# Altium integrated library TI Amplifiers and Linear Special Function Amplifier.IntLib: 708 symbols (part 19 of 47)
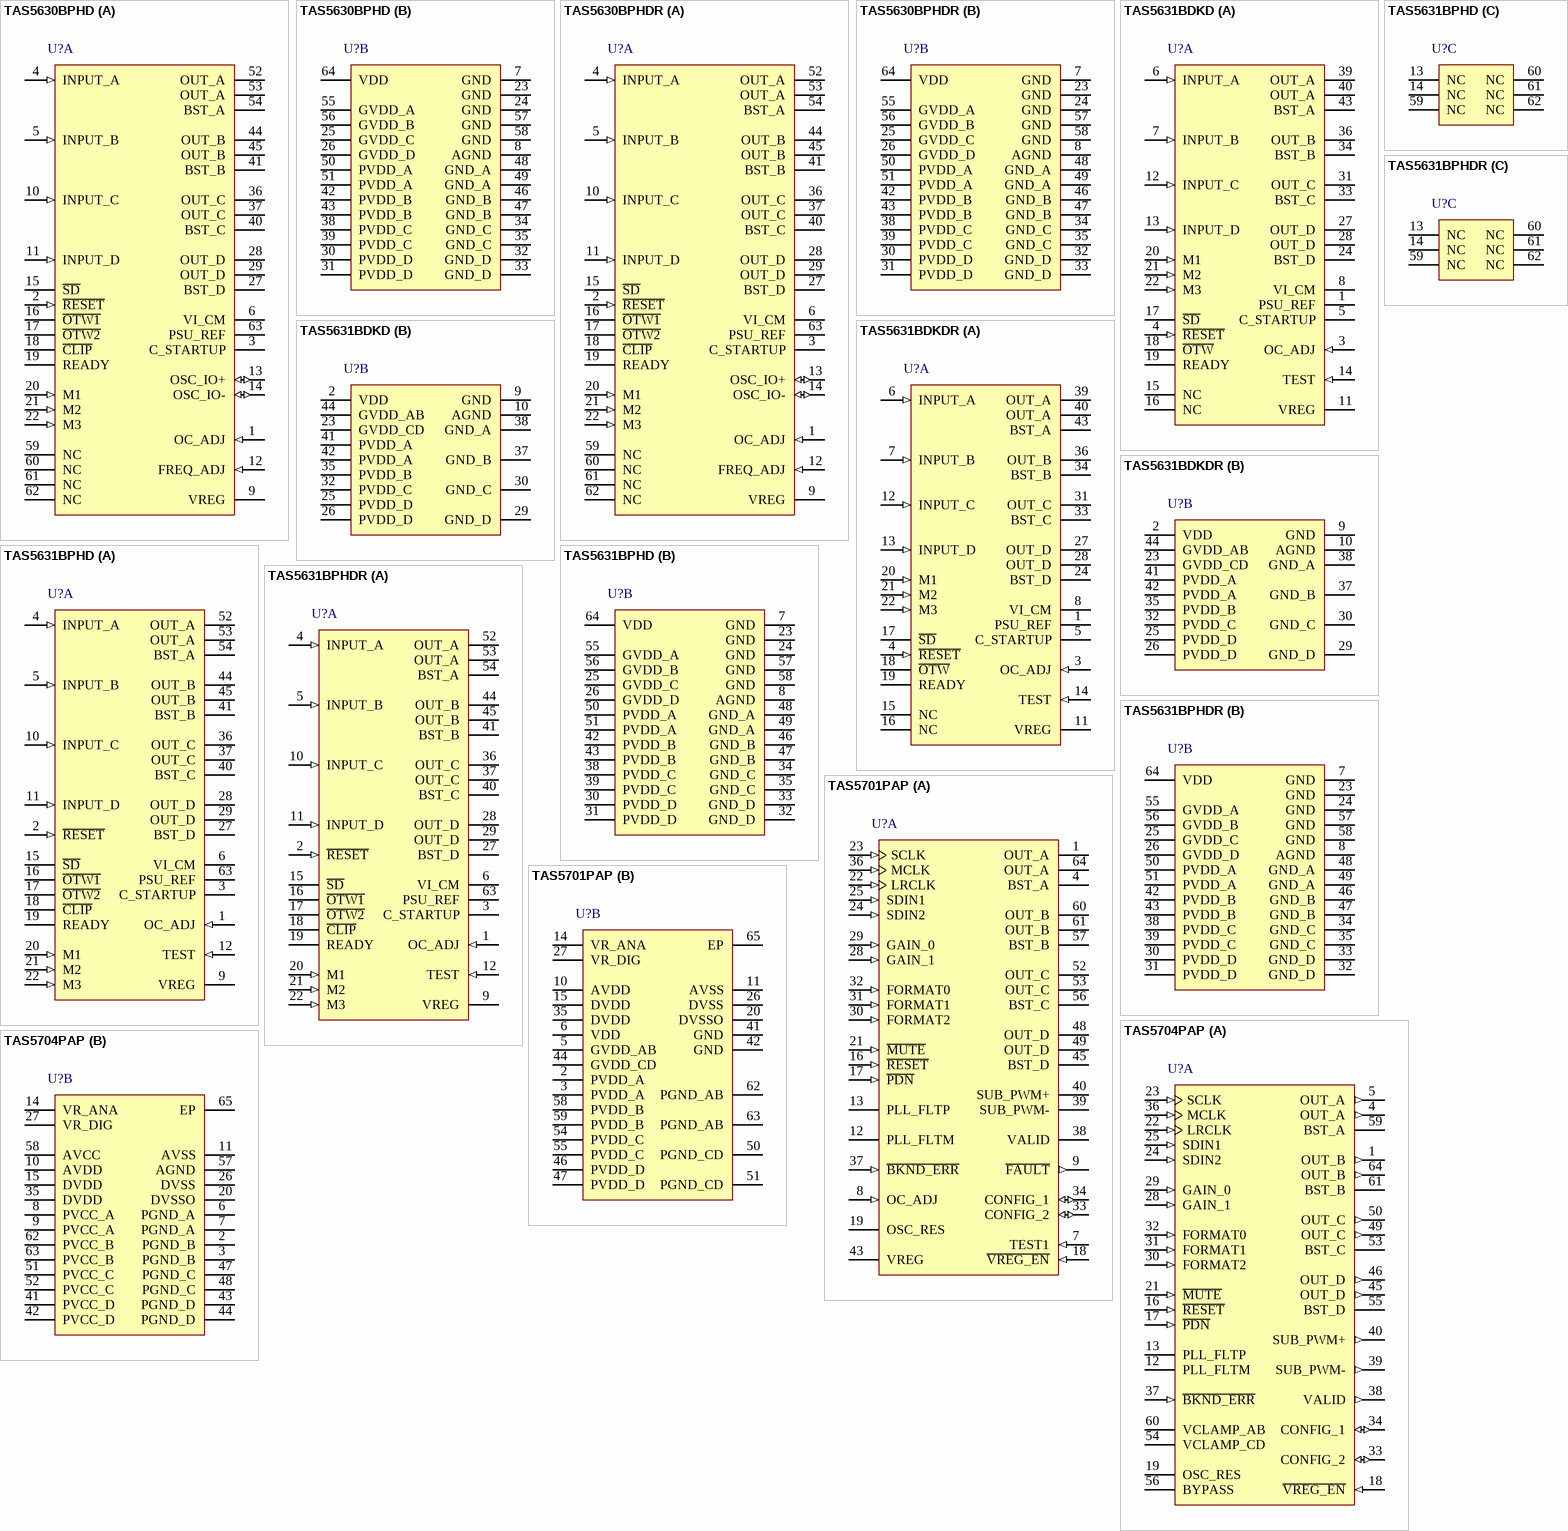
[diagram p57: symbols TAS5630BPHD to TAS5704PAP]

## TAS5630BPHD
designator U?
Analog Input 300 W Stereo Class D Amplifier with Integrated Feedback, 0 to 70 degC, 64-pin QFP (PHD64), Green (RoHS & no Sb/Br); Manufacturer: Texas Instruments; PartNumber: TAS5630BPHD; Analog Supply Max [V]: 13.2; Analog Supply Min [V]: 10.8; Max. Number of Speaker Outputs: 4; Power Stage Supply Min(V): 25; SubFamily: Mid/High-Power Amplifier; DatasheetVersion: SLES217C; PackageVersion: 4087742/E, 10/2008; PackageReference: PHD64; PackageDescription: 64-Pin Plastic Flat Pack, Body 14 x 14 mm, Pitch 0.8 mm; Supplier 1: Digi-Key; Supplier Part Number 1: 296-34190-5-ND; Supplier 2: Farnell; Supplier Part Number 2: 2095822; Supplier 3: Newark; Supplier Part Number 3: 91T5091; Supplier 4: Mouser; Supplier Part Number 4: 595-TAS5630BPHD; Eco-Plan: Green (RoHS & no Sb/Br); Input Type: Analog; Mounting Technology: Surface Mount; Code_JEDEC: MS-026; ComponentLink1Description: Manufacturer URL; ComponentLink1URL: http://www.ti.com/; ComponentLink2Description: Datasheet; ComponentLink2URL: http://www.ti.com/general/docs/lit/getliterature.tsp?genericPartNumber=TAS5630B&fileType=pdf; ComponentLink3Description: Package Specification; ComponentLink3URL: http://www.ti.com/lit/ml/mpqf047d/mpqf047d.pdf
footprint TI-PHD64_N (QFP, 64-Leads, Body 14x14mm, Pitch 0.8mm, IPC Medium Density)
footprint TI-PHD64_L (QFP, 64-Leads, Body 14x14mm, Pitch 0.8mm, IPC High Density)
footprint TI-PHD64_M (QFP, 64-Leads, Body 14x14mm, Pitch 0.8mm, IPC Low Density)
part A pins: 1 OC_ADJ (in) "Analog overcurrent-programming pin requires resistor to AGND. 64-pin package (PHD) = 22 kohm. 44-pin PSOP3 (DKD) = 24 kohm", 2 ~{RESET} (in) "Device reset input; active-low", 3 C_STARTUP "Start-up ramp requires a charging capacitor of 4.7 nF to AGND in BTL mode", 4 INPUT_A (in) "Input signal for half-bridge A", 5 INPUT_B (in) "Input signal for half-bridge B", 6 VI_CM "Analog comparator reference node requires close decoupling of 1 nF to AGND.", 9 VREG "Digital regulator supply filter pin requires 0.1-uF capacitor to AGND.", 10 INPUT_C (in) "Input signal for half-bridge C", 11 INPUT_D (in) "Input signal for half-bridge D", 12 FREQ_ADJ (in) "PWM frame-rate-programming pin requires resistor to AGND", 13 OSC_IO+ (io) "Oscillator master/slave output/input", 14 OSC_IO- (io) "Oscillator master/slave output/input", 15 ~{SD} (oc) "Shutdown signal, open-drain, active-low", 16 ~{OTW1} (oc) "Overtemperature warning signal, open-drain, active-low", 17 ~{OTW2} (oc) "Overtemperature warning signal, open-drain, active-low", 18 ~{CLIP} (oc) "Clipping warning; open drain; active-low", 19 READY (oc) "Normal operation; open-drain; active-high", 20 M1 (in) "Mode selection", 21 M2 (in) "Mode selection", 22 M3 (in) "Mode selection", 27 BST_D "HS bootstrap supply (BST), external 0.033-uF capacitor to OUT_D required.", 28 OUT_D (hiz) "Output, half-bridge D", 29 OUT_D (hiz) "Output, half-bridge D", 36 OUT_C (hiz) "Output, half-bridge C", 37 OUT_C (hiz) "Output, half-bridge C", 40 BST_C "HS bootstrap supply (BST), external 0.033-uF capacitor to OUT_C required.", 41 BST_B "HS bootstrap supply (BST), external 0.033-uF capacitor to OUT_B required.", 44 OUT_B (hiz) "Output, half-bridge B", 45 OUT_B (hiz) "Output, half-bridge B", 52 OUT_A (hiz) "Output, half-bridge A", 53 OUT_A (hiz) "Output, half-bridge A", 54 BST_A "HS bootstrap supply (BST), external 0.033-uF capacitor to OUT_A required.", 59 NC "No connect; pins may be grounded.", 60 NC "No connect; pins may be grounded.", 61 NC "No connect; pins may be grounded.", 62 NC "No connect; pins may be grounded.", 63 PSU_REF "PSU reference requires close decoupling of 330 pF to AGND."
part B pins: 7 GND (power) "Ground", 8 AGND (power) "Analog ground", 23 GND (power) "Ground", 24 GND (power) "Ground", 25 GVDD_C (power) "Gate drive voltage supply requires 0.1-uF capacitor to GND_C", 26 GVDD_D (power) "Gate drive voltage supply requires 0.1-uF capacitor to GND_D", 30 PVDD_D (power) "Power-supply input for half-bridge D requires close decoupling of 0.01-uF capacitor in parallel with 2.2-uF capacitor to GND_D.", 31 PVDD_D (power) "Power-supply input for half-bridge D requires close decoupling of 0.01-uF capacitor in parallel with 2.2-uF capacitor to GND_D.", 32 GND_D (power) "Power ground for half-bridge D", 33 GND_D (power) "Power ground for half-bridge D", 34 GND_C (power) "Power ground for half-bridge C", 35 GND_C (power) "Power ground for half-bridge C", 38 PVDD_C (power) "Power-supply input for half-bridge C requires close decoupling of 0.0- uF capacitor in parallel with 2.2-uF capacitor to GND_C.", 39 PVDD_C (power) "Power-supply input for half-bridge C requires close decoupling of 0.0- uF capacitor in parallel with 2.2-uF capacitor to GND_C.", 42 PVDD_B (power) "Power-supply input for half-bridge B requires close decoupling of 0.01-uF capacitor in parallel with 2.2-uF capacitor to GND_B.", 43 PVDD_B (power) "Power-supply input for half-bridge B requires close decoupling of 0.01-uF capacitor in parallel with 2.2-uF capacitor to GND_B.", 46 GND_B (power) "Power ground for half-bridge B", 47 GND_B (power) "Power ground for half-bridge B", 48 GND_A (power) "Power ground for half-bridge A", 49 GND_A (power) "Power ground for half-bridge A", 50 PVDD_A (power) "Power-supply input for half-bridge A requires close decoupling of 0.01-uF capacitor in parallel with 2.2-uF capacitor to GND_A.", 51 PVDD_A (power) "Power-supply input for half-bridge A requires close decoupling of 0.01-uF capacitor in parallel with 2.2-uF capacitor to GND_A.", 55 GVDD_A (power) "Gate-drive voltage supply requires 0.1-uF capacitor to GND_A", 56 GVDD_B (power) "Gate drive voltage supply requires 0.1-uF capacitor to GND_B", 57 GND (power) "Ground", 58 GND (power) "Ground", 64 VDD (power) "Power supply for digital voltage regulator requires a 10-uF capacitor in parallel with a 0.1-uF capacitor to GND for decoupling."

## TAS5630BPHDR
designator U?
Analog Input 300 W Stereo Class D Amplifier with Integrated Feedback, 0 to 70 degC, 64-pin QFP (PHD64), Green (RoHS & no Sb/Br); Manufacturer: Texas Instruments; PartNumber: TAS5630BPHDR; Analog Supply Max [V]: 13.2; Analog Supply Min [V]: 10.8; Max. Number of Speaker Outputs: 4; Power Stage Supply Min(V): 25; SubFamily: Mid/High-Power Amplifier; DatasheetVersion: SLES217C; PackageVersion: 4087742/E, 10/2008; PackageReference: PHD64; PackageDescription: 64-Pin Plastic Flat Pack, Body 14 x 14 mm, Pitch 0.8 mm; Supplier 1: Digi-Key; Supplier Part Number 1: 296-30006-2-ND; Supplier 2: Digi-Key; Supplier Part Number 2: 296-30006-1-ND; Supplier 3: Digi-Key; Supplier Part Number 3: 296-30006-6-ND; Supplier 4: Newark; Supplier Part Number 4: 82T4186; Supplier 5: Mouser; Supplier Part Number 5: 595-TAS5630BPHDR; Eco-Plan: Green (RoHS & no Sb/Br); Input Type: Analog; Mounting Technology: Surface Mount; Code_JEDEC: MS-026; ComponentLink1Description: Manufacturer URL; ComponentLink1URL: http://www.ti.com/; ComponentLink2Description: Datasheet; ComponentLink2URL: http://www.ti.com/general/docs/lit/getliterature.tsp?genericPartNumber=TAS5630B&fileType=pdf; ComponentLink3Description: Package Specification; ComponentLink3URL: http://www.ti.com/lit/ml/mpqf047d/mpqf047d.pdf
footprint TI-PHD64_N (QFP, 64-Leads, Body 14x14mm, Pitch 0.8mm, IPC Medium Density)
footprint TI-PHD64_L (QFP, 64-Leads, Body 14x14mm, Pitch 0.8mm, IPC High Density)
footprint TI-PHD64_M (QFP, 64-Leads, Body 14x14mm, Pitch 0.8mm, IPC Low Density)
part A pins: 1 OC_ADJ (in) "Analog overcurrent-programming pin requires resistor to AGND. 64-pin package (PHD) = 22 kohm. 44-pin PSOP3 (DKD) = 24 kohm", 2 ~{RESET} (in) "Device reset input; active-low", 3 C_STARTUP "Start-up ramp requires a charging capacitor of 4.7 nF to AGND in BTL mode", 4 INPUT_A (in) "Input signal for half-bridge A", 5 INPUT_B (in) "Input signal for half-bridge B", 6 VI_CM "Analog comparator reference node requires close decoupling of 1 nF to AGND.", 9 VREG "Digital regulator supply filter pin requires 0.1-uF capacitor to AGND.", 10 INPUT_C (in) "Input signal for half-bridge C", 11 INPUT_D (in) "Input signal for half-bridge D", 12 FREQ_ADJ (in) "PWM frame-rate-programming pin requires resistor to AGND", 13 OSC_IO+ (io) "Oscillator master/slave output/input", 14 OSC_IO- (io) "Oscillator master/slave output/input", 15 ~{SD} (oc) "Shutdown signal, open-drain, active-low", 16 ~{OTW1} (oc) "Overtemperature warning signal, open-drain, active-low", 17 ~{OTW2} (oc) "Overtemperature warning signal, open-drain, active-low", 18 ~{CLIP} (oc) "Clipping warning; open drain; active-low", 19 READY (oc) "Normal operation; open-drain; active-high", 20 M1 (in) "Mode selection", 21 M2 (in) "Mode selection", 22 M3 (in) "Mode selection", 27 BST_D "HS bootstrap supply (BST), external 0.033-uF capacitor to OUT_D required.", 28 OUT_D (hiz) "Output, half-bridge D", 29 OUT_D (hiz) "Output, half-bridge D", 36 OUT_C (hiz) "Output, half-bridge C", 37 OUT_C (hiz) "Output, half-bridge C", 40 BST_C "HS bootstrap supply (BST), external 0.033-uF capacitor to OUT_C required.", 41 BST_B "HS bootstrap supply (BST), external 0.033-uF capacitor to OUT_B required.", 44 OUT_B (hiz) "Output, half-bridge B", 45 OUT_B (hiz) "Output, half-bridge B", 52 OUT_A (hiz) "Output, half-bridge A", 53 OUT_A (hiz) "Output, half-bridge A", 54 BST_A "HS bootstrap supply (BST), external 0.033-uF capacitor to OUT_A required.", 59 NC "No connect; pins may be grounded.", 60 NC "No connect; pins may be grounded.", 61 NC "No connect; pins may be grounded.", 62 NC "No connect; pins may be grounded.", 63 PSU_REF "PSU reference requires close decoupling of 330 pF to AGND."
part B pins: 7 GND (power) "Ground", 8 AGND (power) "Analog ground", 23 GND (power) "Ground", 24 GND (power) "Ground", 25 GVDD_C (power) "Gate drive voltage supply requires 0.1-uF capacitor to GND_C", 26 GVDD_D (power) "Gate drive voltage supply requires 0.1-uF capacitor to GND_D", 30 PVDD_D (power) "Power-supply input for half-bridge D requires close decoupling of 0.01-uF capacitor in parallel with 2.2-uF capacitor to GND_D.", 31 PVDD_D (power) "Power-supply input for half-bridge D requires close decoupling of 0.01-uF capacitor in parallel with 2.2-uF capacitor to GND_D.", 32 GND_D (power) "Power ground for half-bridge D", 33 GND_D (power) "Power ground for half-bridge D", 34 GND_C (power) "Power ground for half-bridge C", 35 GND_C (power) "Power ground for half-bridge C", 38 PVDD_C (power) "Power-supply input for half-bridge C requires close decoupling of 0.0- uF capacitor in parallel with 2.2-uF capacitor to GND_C.", 39 PVDD_C (power) "Power-supply input for half-bridge C requires close decoupling of 0.0- uF capacitor in parallel with 2.2-uF capacitor to GND_C.", 42 PVDD_B (power) "Power-supply input for half-bridge B requires close decoupling of 0.01-uF capacitor in parallel with 2.2-uF capacitor to GND_B.", 43 PVDD_B (power) "Power-supply input for half-bridge B requires close decoupling of 0.01-uF capacitor in parallel with 2.2-uF capacitor to GND_B.", 46 GND_B (power) "Power ground for half-bridge B", 47 GND_B (power) "Power ground for half-bridge B", 48 GND_A (power) "Power ground for half-bridge A", 49 GND_A (power) "Power ground for half-bridge A", 50 PVDD_A (power) "Power-supply input for half-bridge A requires close decoupling of 0.01-uF capacitor in parallel with 2.2-uF capacitor to GND_A.", 51 PVDD_A (power) "Power-supply input for half-bridge A requires close decoupling of 0.01-uF capacitor in parallel with 2.2-uF capacitor to GND_A.", 55 GVDD_A (power) "Gate-drive voltage supply requires 0.1-uF capacitor to GND_A", 56 GVDD_B (power) "Gate drive voltage supply requires 0.1-uF capacitor to GND_B", 57 GND (power) "Ground", 58 GND (power) "Ground", 64 VDD (power) "Power supply for digital voltage regulator requires a 10-uF capacitor in parallel with a 0.1-uF capacitor to GND for decoupling."

## TAS5631BDKD
designator U?
PWM Input 300 W Stereo Class D Amplifier with Integrated Feedback, 0 to 70 degC, 44-pin SOP (DKD44), Green (RoHS & no Sb/Br); Manufacturer: Texas Instruments; PartNumber: TAS5631BDKD; Analog Supply Max [V]: 13.2; Analog Supply Min [V]: 10.8; Max. Number of Speaker Outputs: 4; Power Stage Supply Min(V): 25; SubFamily: Mid/High-Power Amplifier; DatasheetVersion: SLES263C; PackageVersion: 4204421-3/K, 06/2012; PackageReference: DKD44; PackageDescription: 44-Pin Plastic Small Outline, Body 11 x 15.9 mm, Pitch 0.65 mm; Supplier 1: Digi-Key; Supplier Part Number 1: TAS5631BDKD-ND; Supplier 2: Mouser; Supplier Part Number 2: 595-TAS5631BDKD; Eco-Plan: Green (RoHS & no Sb/Br); Input Type: PWM; Mounting Technology: Surface Mount; ComponentLink1Description: Manufacturer URL; ComponentLink1URL: http://www.ti.com/; ComponentLink2Description: Datasheet; ComponentLink2URL: http://www.ti.com/general/docs/lit/getliterature.tsp?genericPartNumber=TAS5631B&fileType=pdf; ComponentLink3Description: Package Specification; ComponentLink3URL: http://www.ti.com/litv/pdf/mpdi001b
footprint TI-DKD44_N (SOP, 44-Leads, Body 15.9x11mm, Pitch 0.65mm, IPC Medium Density)
footprint TI-DKD44_L (SOP, 44-Leads, Body 15.9x11mm, Pitch 0.65mm, IPC High Density)
footprint TI-DKD44_M (SOP, 44-Leads, Body 15.9x11mm, Pitch 0.65mm, IPC Low Density)
part A pins: 1 PSU_REF "PSU Reference requires close decoupling of 4.7uF to AGND", 3 OC_ADJ (in) "Analog overcurrent programming pin requires resistor to ground.", 4 ~{RESET} (in) "Device reset input; active-low", 5 C_STARTUP "Startup ramp requires a charging capacitor of 4.7 nF to AGND", 6 INPUT_A (in) "Input signal for half bridge A", 7 INPUT_B (in) "Input signal for half bridge B", 8 VI_CM "Analog comparator reference node requires close decoupling of 4.7uF to AGND", 11 VREG "Digital regulator supply filter pin requires 0.1-uF capacitor to AGND.", 12 INPUT_C (in) "Input signal for half bridge C", 13 INPUT_D (in) "Input signal for half bridge D", 14 TEST (in) "Connect to VREG node", 15 NC "No connect, pins may be grounded.", 16 NC "No connect, pins may be grounded.", 17 ~{SD} (oc) "Shutdown signal, open-drain, active-low", 18 ~{OTW} (oc) "Overtemperature warning signal, open-drain, active-low", 19 READY (oc) "Normal operation; open-drain; active-high", 20 M1 (in) "Mode selection", 21 M2 (in) "Mode selection", 22 M3 (in) "Mode selection", 24 BST_D "HS bootstrap supply (BST), external 0.033-uF capacitor to OUT_D required.", 27 OUT_D (hiz) "Output, half bridge D", 28 OUT_D (hiz) "Output, half bridge D", 31 OUT_C (hiz) "Output, half bridge C", 33 BST_C "HS bootstrap supply (BST), external 0.033-uF capacitor to OUT_C required.", 34 BST_B "HS bootstrap supply (BST), external 0.033-uF capacitor to OUT_B required.", 36 OUT_B (hiz) "Output, half bridge B", 39 OUT_A (hiz) "Output, half bridge A", 40 OUT_A (hiz) "Output, half bridge A", 43 BST_A "HS bootstrap supply (BST), external 0.033-uF capacitor to OUT_A required."
part B pins: 2 VDD (power) "Power supply for digital voltage regulator requires a 47uF capacitor in parallel with a 0.1uF capacitor to GND for decoupling.", 9 GND (power) "Ground", 10 AGND (power) "Analog ground", 23 GVDD_CD (power) "Gate drive voltage supply requires 0.22-uF capacitor to AGND.", 25 PVDD_D (power) "Power-supply input for half-bridge D requires close decoupling with 2.2uF capacitor to GND_D.", 26 PVDD_D (power) "Power-supply input for half-bridge D requires close decoupling with 2.2uF capacitor to GND_D.", 29 GND_D (power) "Power ground for half bridge D", 30 GND_C (power) "Power ground for half bridge C", 32 PVDD_C (power) "Power-supply input for half-bridge C requires close decoupling with 2.2uF capacitor to GND_C.", 35 PVDD_B (power) "Power-supply input for half-bridge B requires close decoupling with 2.2uF capacitor to GND_B.", 37 GND_B (power) "Power ground for half bridge B", 38 GND_A (power) "Power ground for half bridge A", 41 PVDD_A (power) "Power-supply input for half-bridge A requires close decoupling with 2.2uF capacitor to GND_A.", 42 PVDD_A (power) "Power-supply input for half-bridge A requires close decoupling with 2.2uF capacitor to GND_A.", 44 GVDD_AB (power) "Gate drive voltage supply requires 0.22-uF capacitor to AGND."

## TAS5631BDKDR
designator U?
PWM Input 300 W Stereo Class D Amplifier with Integrated Feedback, 0 to 70 degC, 44-pin SOP (DKD44), Green (RoHS & no Sb/Br); Manufacturer: Texas Instruments; PartNumber: TAS5631BDKDR; Analog Supply Max [V]: 13.2; Analog Supply Min [V]: 10.8; Max. Number of Speaker Outputs: 4; Power Stage Supply Min(V): 25; SubFamily: Mid/High-Power Amplifier; DatasheetVersion: SLES263C; PackageVersion: 4204421-3/K, 06/2012; PackageReference: DKD44; PackageDescription: 44-Pin Plastic Small Outline, Body 11 x 15.9 mm, Pitch 0.65 mm; Supplier 1: Digi-Key; Supplier Part Number 1: 296-30029-2-ND; Supplier 2: Digi-Key; Supplier Part Number 2: 296-30029-1-ND; Supplier 3: Digi-Key; Supplier Part Number 3: 296-30029-6-ND; Supplier 4: Mouser; Supplier Part Number 4: 595-TAS5631BDKDR; Eco-Plan: Green (RoHS & no Sb/Br); Input Type: PWM; Mounting Technology: Surface Mount; ComponentLink1Description: Manufacturer URL; ComponentLink1URL: http://www.ti.com/; ComponentLink2Description: Datasheet; ComponentLink2URL: http://www.ti.com/general/docs/lit/getliterature.tsp?genericPartNumber=TAS5631B&fileType=pdf; ComponentLink3Description: Package Specification; ComponentLink3URL: http://www.ti.com/litv/pdf/mpdi001b
footprint TI-DKD44_N (SOP, 44-Leads, Body 15.9x11mm, Pitch 0.65mm, IPC Medium Density)
footprint TI-DKD44_L (SOP, 44-Leads, Body 15.9x11mm, Pitch 0.65mm, IPC High Density)
footprint TI-DKD44_M (SOP, 44-Leads, Body 15.9x11mm, Pitch 0.65mm, IPC Low Density)
part A pins: 1 PSU_REF "PSU Reference requires close decoupling of 4.7uF to AGND", 3 OC_ADJ (in) "Analog overcurrent programming pin requires resistor to ground.", 4 ~{RESET} (in) "Device reset input; active-low", 5 C_STARTUP "Startup ramp requires a charging capacitor of 4.7 nF to AGND", 6 INPUT_A (in) "Input signal for half bridge A", 7 INPUT_B (in) "Input signal for half bridge B", 8 VI_CM "Analog comparator reference node requires close decoupling of 4.7uF to AGND", 11 VREG "Digital regulator supply filter pin requires 0.1-uF capacitor to AGND.", 12 INPUT_C (in) "Input signal for half bridge C", 13 INPUT_D (in) "Input signal for half bridge D", 14 TEST (in) "Connect to VREG node", 15 NC "No connect, pins may be grounded.", 16 NC "No connect, pins may be grounded.", 17 ~{SD} (oc) "Shutdown signal, open-drain, active-low", 18 ~{OTW} (oc) "Overtemperature warning signal, open-drain, active-low", 19 READY (oc) "Normal operation; open-drain; active-high", 20 M1 (in) "Mode selection", 21 M2 (in) "Mode selection", 22 M3 (in) "Mode selection", 24 BST_D "HS bootstrap supply (BST), external 0.033-uF capacitor to OUT_D required.", 27 OUT_D (hiz) "Output, half bridge D", 28 OUT_D (hiz) "Output, half bridge D", 31 OUT_C (hiz) "Output, half bridge C", 33 BST_C "HS bootstrap supply (BST), external 0.033-uF capacitor to OUT_C required.", 34 BST_B "HS bootstrap supply (BST), external 0.033-uF capacitor to OUT_B required.", 36 OUT_B (hiz) "Output, half bridge B", 39 OUT_A (hiz) "Output, half bridge A", 40 OUT_A (hiz) "Output, half bridge A", 43 BST_A "HS bootstrap supply (BST), external 0.033-uF capacitor to OUT_A required."
part B pins: 2 VDD (power) "Power supply for digital voltage regulator requires a 47uF capacitor in parallel with a 0.1uF capacitor to GND for decoupling.", 9 GND (power) "Ground", 10 AGND (power) "Analog ground", 23 GVDD_CD (power) "Gate drive voltage supply requires 0.22-uF capacitor to AGND.", 25 PVDD_D (power) "Power-supply input for half-bridge D requires close decoupling with 2.2uF capacitor to GND_D.", 26 PVDD_D (power) "Power-supply input for half-bridge D requires close decoupling with 2.2uF capacitor to GND_D.", 29 GND_D (power) "Power ground for half bridge D", 30 GND_C (power) "Power ground for half bridge C", 32 PVDD_C (power) "Power-supply input for half-bridge C requires close decoupling with 2.2uF capacitor to GND_C.", 35 PVDD_B (power) "Power-supply input for half-bridge B requires close decoupling with 2.2uF capacitor to GND_B.", 37 GND_B (power) "Power ground for half bridge B", 38 GND_A (power) "Power ground for half bridge A", 41 PVDD_A (power) "Power-supply input for half-bridge A requires close decoupling with 2.2uF capacitor to GND_A.", 42 PVDD_A (power) "Power-supply input for half-bridge A requires close decoupling with 2.2uF capacitor to GND_A.", 44 GVDD_AB (power) "Gate drive voltage supply requires 0.22-uF capacitor to AGND."

## TAS5631BPHD
designator U?
PWM Input 300 W Stereo Class D Amplifier with Integrated Feedback, 0 to 70 degC, 64-pin QFP (PHD64), Green (RoHS & no Sb/Br); Manufacturer: Texas Instruments; PartNumber: TAS5631BPHD; Analog Supply Max [V]: 13.2; Analog Supply Min [V]: 10.8; Max. Number of Speaker Outputs: 4; Power Stage Supply Min(V): 25; SubFamily: Mid/High-Power Amplifier; DatasheetVersion: SLES263C; PackageVersion: 4087742/E, 10/2008; PackageReference: PHD64; PackageDescription: 64-Pin Plastic Flat Pack, Body 14 x 14 mm, Pitch 0.8 mm; Supplier 1: Digi-Key; Supplier Part Number 1: 296-32728-ND; Supplier 2: Newark; Supplier Part Number 2: 41T3450; Supplier 3: Mouser; Supplier Part Number 3: 595-TAS5631BPHD; Eco-Plan: Green (RoHS & no Sb/Br); Input Type: PWM; Mounting Technology: Surface Mount; Code_JEDEC: MS-026; ComponentLink1Description: Manufacturer URL; ComponentLink1URL: http://www.ti.com/; ComponentLink2Description: Datasheet; ComponentLink2URL: http://www.ti.com/general/docs/lit/getliterature.tsp?genericPartNumber=TAS5631B&fileType=pdf; ComponentLink3Description: Package Specification; ComponentLink3URL: http://www.ti.com/lit/ml/mpqf047d/mpqf047d.pdf
footprint TI-PHD64_N (QFP, 64-Leads, Body 14x14mm, Pitch 0.8mm, IPC Medium Density)
footprint TI-PHD64_L (QFP, 64-Leads, Body 14x14mm, Pitch 0.8mm, IPC High Density)
footprint TI-PHD64_M (QFP, 64-Leads, Body 14x14mm, Pitch 0.8mm, IPC Low Density)
part A pins: 1 OC_ADJ (in) "Analog overcurrent programming pin requires resistor to ground.", 2 ~{RESET} (in) "Device reset input; active-low", 3 C_STARTUP "Startup ramp requires a charging capacitor of 4.7 nF to AGND", 4 INPUT_A (in) "Input signal for half bridge A", 5 INPUT_B (in) "Input signal for half bridge B", 6 VI_CM "Analog comparator reference node requires close decoupling of 4.7uF to GND", 9 VREG "Digital regulator supply filter pin requires 0.1-uF capacitor to AGND.", 10 INPUT_C (in) "Input signal for half bridge C", 11 INPUT_D (in) "Input signal for half bridge D", 12 TEST (in) "Connect to VREG node", 15 ~{SD} (oc) "Shutdown signal, open-drain, active-low", 16 ~{OTW1} (oc) "Overtemperature warning signal, open-drain, active-low", 17 ~{OTW2} (oc) "Overtemperature warning signal, open-drain, active-low", 18 ~{CLIP} (oc) "Clipping warning; open drain; active-low", 19 READY (oc) "Normal operation; open-drain; active-high", 20 M1 (in) "Mode selection", 21 M2 (in) "Mode selection", 22 M3 (in) "Mode selection", 27 BST_D "HS bootstrap supply (BST), external 0.033-uF capacitor to OUT_D required.", 28 OUT_D (hiz) "Output, half bridge D", 29 OUT_D (hiz) "Output, half bridge D", 36 OUT_C (hiz) "Output, half bridge C", 37 OUT_C (hiz) "Output, half bridge C", 40 BST_C "HS bootstrap supply (BST), external 0.033-uF capacitor to OUT_C required.", 41 BST_B "HS bootstrap supply (BST), external 0.033-uF capacitor to OUT_B required.", 44 OUT_B (hiz) "Output, half bridge B", 45 OUT_B (hiz) "Output, half bridge B", 52 OUT_A (hiz) "Output, half bridge A", 53 OUT_A (hiz) "Output, half bridge A", 54 BST_A "HS bootstrap supply (BST), external 0.033-uF capacitor to OUT_A required.", 63 PSU_REF "PSU Reference requires close decoupling of 4.7uF to AGND"
part B pins: 7 GND (power) "Ground", 8 AGND (power) "Analog ground", 23 GND (power) "Ground", 24 GND (power) "Ground", 25 GVDD_C (power) "Gate drive voltage supply requires 0.1-uF capacitor to AGND.", 26 GVDD_D (power) "Gate drive voltage supply requires 0.1-uF capacitor to AGND.", 30 PVDD_D (power) "Power-supply input for half-bridge D requires close decoupling with 2.2uF capacitor to GND_D.", 31 PVDD_D (power) "Power-supply input for half-bridge D requires close decoupling with 2.2uF capacitor to GND_D.", 32 GND_D (power) "Power ground for half bridge D", 33 GND_D (power) "Power ground for half bridge D", 34 GND_C (power) "Power ground for half bridge C", 35 GND_C (power) "Power ground for half bridge C", 38 PVDD_C (power) "Power-supply input for half-bridge C requires close decoupling with 2.2uF capacitor to GND_C.", 39 PVDD_C (power) "Power-supply input for half-bridge C requires close decoupling with 2.2uF capacitor to GND_C.", 42 PVDD_B (power) "Power-supply input for half-bridge B requires close decoupling with 2.2uF capacitor to GND_B.", 43 PVDD_B (power) "Power-supply input for half-bridge B requires close decoupling with 2.2uF capacitor to GND_B.", 46 GND_B (power) "Power ground for half bridge B", 47 GND_B (power) "Power ground for half bridge B", 48 GND_A (power) "Power ground for half bridge A", 49 GND_A (power) "Power ground for half bridge A", 50 PVDD_A (power) "Power-supply input for half-bridge A requires close decoupling with 2.2uF capacitor to GND_A.", 51 PVDD_A (power) "Power-supply input for half-bridge A requires close decoupling with 2.2uF capacitor to GND_A.", 55 GVDD_A (power) "Gate-drive voltage supply requires 0.1-uF capacitor to AGND", 56 GVDD_B (power) "Gate drive voltage supply requires 0.1-uF capacitor to AGND.", 57 GND (power) "Ground", 58 GND (power) "Ground", 64 VDD (power) "Power supply for digital voltage regulator requires a 47uF capacitor in parallel with a 0.1uF capacitor to GND for decoupling."
part C pins: 13 NC "No connect, pins may be grounded.", 14 NC "No connect, pins may be grounded.", 59 NC "No connect; pins may be grounded.", 60 NC "No connect; pins may be grounded.", 61 NC "No connect; pins may be grounded.", 62 NC "No connect; pins may be grounded."

## TAS5631BPHDR
designator U?
PWM Input 300 W Stereo Class D Amplifier with Integrated Feedback, 0 to 70 degC, 64-pin QFP (PHD64), Green (RoHS & no Sb/Br); Manufacturer: Texas Instruments; PartNumber: TAS5631BPHDR; Analog Supply Max [V]: 13.2; Analog Supply Min [V]: 10.8; Max. Number of Speaker Outputs: 4; Power Stage Supply Min(V): 25; SubFamily: Mid/High-Power Amplifier; DatasheetVersion: SLES263C; PackageVersion: 4087742/E, 10/2008; PackageReference: PHD64; PackageDescription: 64-Pin Plastic Flat Pack, Body 14 x 14 mm, Pitch 0.8 mm; Supplier 1: Digi-Key; Supplier Part Number 1: 296-28438-2-ND; Supplier 2: Digi-Key; Supplier Part Number 2: 296-28438-1-ND; Supplier 3: Digi-Key; Supplier Part Number 3: 296-28438-6-ND; Supplier 4: Mouser; Supplier Part Number 4: 595-TAS5631BPHDR; Eco-Plan: Green (RoHS & no Sb/Br); Input Type: PWM; Mounting Technology: Surface Mount; Code_JEDEC: MS-026; ComponentLink1Description: Manufacturer URL; ComponentLink1URL: http://www.ti.com/; ComponentLink2Description: Datasheet; ComponentLink2URL: http://www.ti.com/general/docs/lit/getliterature.tsp?genericPartNumber=TAS5631B&fileType=pdf; ComponentLink3Description: Package Specification; ComponentLink3URL: http://www.ti.com/lit/ml/mpqf047d/mpqf047d.pdf
footprint TI-PHD64_N (QFP, 64-Leads, Body 14x14mm, Pitch 0.8mm, IPC Medium Density)
footprint TI-PHD64_L (QFP, 64-Leads, Body 14x14mm, Pitch 0.8mm, IPC High Density)
footprint TI-PHD64_M (QFP, 64-Leads, Body 14x14mm, Pitch 0.8mm, IPC Low Density)
part A pins: 1 OC_ADJ (in) "Analog overcurrent programming pin requires resistor to ground.", 2 ~{RESET} (in) "Device reset input; active-low", 3 C_STARTUP "Startup ramp requires a charging capacitor of 4.7 nF to AGND", 4 INPUT_A (in) "Input signal for half bridge A", 5 INPUT_B (in) "Input signal for half bridge B", 6 VI_CM "Analog comparator reference node requires close decoupling of 4.7uF to GND", 9 VREG "Digital regulator supply filter pin requires 0.1-uF capacitor to AGND.", 10 INPUT_C (in) "Input signal for half bridge C", 11 INPUT_D (in) "Input signal for half bridge D", 12 TEST (in) "Connect to VREG node", 15 ~{SD} (oc) "Shutdown signal, open-drain, active-low", 16 ~{OTW1} (oc) "Overtemperature warning signal, open-drain, active-low", 17 ~{OTW2} (oc) "Overtemperature warning signal, open-drain, active-low", 18 ~{CLIP} (oc) "Clipping warning; open drain; active-low", 19 READY (oc) "Normal operation; open-drain; active-high", 20 M1 (in) "Mode selection", 21 M2 (in) "Mode selection", 22 M3 (in) "Mode selection", 27 BST_D "HS bootstrap supply (BST), external 0.033-uF capacitor to OUT_D required.", 28 OUT_D (hiz) "Output, half bridge D", 29 OUT_D (hiz) "Output, half bridge D", 36 OUT_C (hiz) "Output, half bridge C", 37 OUT_C (hiz) "Output, half bridge C", 40 BST_C "HS bootstrap supply (BST), external 0.033-uF capacitor to OUT_C required.", 41 BST_B "HS bootstrap supply (BST), external 0.033-uF capacitor to OUT_B required.", 44 OUT_B (hiz) "Output, half bridge B", 45 OUT_B (hiz) "Output, half bridge B", 52 OUT_A (hiz) "Output, half bridge A", 53 OUT_A (hiz) "Output, half bridge A", 54 BST_A "HS bootstrap supply (BST), external 0.033-uF capacitor to OUT_A required.", 63 PSU_REF "PSU Reference requires close decoupling of 4.7uF to AGND"
part B pins: 7 GND (power) "Ground", 8 AGND (power) "Analog ground", 23 GND (power) "Ground", 24 GND (power) "Ground", 25 GVDD_C (power) "Gate drive voltage supply requires 0.1-uF capacitor to AGND.", 26 GVDD_D (power) "Gate drive voltage supply requires 0.1-uF capacitor to AGND.", 30 PVDD_D (power) "Power-supply input for half-bridge D requires close decoupling with 2.2uF capacitor to GND_D.", 31 PVDD_D (power) "Power-supply input for half-bridge D requires close decoupling with 2.2uF capacitor to GND_D.", 32 GND_D (power) "Power ground for half bridge D", 33 GND_D (power) "Power ground for half bridge D", 34 GND_C (power) "Power ground for half bridge C", 35 GND_C (power) "Power ground for half bridge C", 38 PVDD_C (power) "Power-supply input for half-bridge C requires close decoupling with 2.2uF capacitor to GND_C.", 39 PVDD_C (power) "Power-supply input for half-bridge C requires close decoupling with 2.2uF capacitor to GND_C.", 42 PVDD_B (power) "Power-supply input for half-bridge B requires close decoupling with 2.2uF capacitor to GND_B.", 43 PVDD_B (power) "Power-supply input for half-bridge B requires close decoupling with 2.2uF capacitor to GND_B.", 46 GND_B (power) "Power ground for half bridge B", 47 GND_B (power) "Power ground for half bridge B", 48 GND_A (power) "Power ground for half bridge A", 49 GND_A (power) "Power ground for half bridge A", 50 PVDD_A (power) "Power-supply input for half-bridge A requires close decoupling with 2.2uF capacitor to GND_A.", 51 PVDD_A (power) "Power-supply input for half-bridge A requires close decoupling with 2.2uF capacitor to GND_A.", 55 GVDD_A (power) "Gate-drive voltage supply requires 0.1-uF capacitor to AGND", 56 GVDD_B (power) "Gate drive voltage supply requires 0.1-uF capacitor to AGND.", 57 GND (power) "Ground", 58 GND (power) "Ground", 64 VDD (power) "Power supply for digital voltage regulator requires a 47uF capacitor in parallel with a 0.1uF capacitor to GND for decoupling."
part C pins: 13 NC "No connect, pins may be grounded.", 14 NC "No connect, pins may be grounded.", 59 NC "No connect; pins may be grounded.", 60 NC "No connect; pins may be grounded.", 61 NC "No connect; pins may be grounded.", 62 NC "No connect; pins may be grounded."

## TAS5701PAP
designator U?
20 W Stereo I2S Audio Power Amplifier (H / W Controlled), 0 to 85 degC, 64-pin QFP (PAP64), Green (RoHS & no Sb/Br); Manufacturer: Texas Instruments; PartNumber: TAS5701PAP; Analog Supply Max [V]: 3.6; Analog Supply Min [V]: 3; Input Type: Digital; Max. Number of Speaker Outputs: 2; Power Stage Supply Min(V): 10; SubFamily: Mid/High-Power Amplifier; DatasheetVersion: SLOS559A; PackageVersion: 4147702/C, 08/2003; PackageReference: PAP64-4935X4935TP; PackageDescription: 64-Pin Plastic Flat Pack, Body 10 x 10 mm, Pitch 0.5 mm; Supplier 1: Digi-Key; Supplier Part Number 1: 296-23625-ND; Supplier 2: Farnell; Supplier Part Number 2: 1755216; Supplier 3: Newark; Supplier Part Number 3: 01P0908; Supplier 4: Mouser; Supplier Part Number 4: 595-TAS5701PAP; Digital Supply Min [V]: 3; Eco-Plan: Green (RoHS & no Sb/Br); Mounting Technology: Surface Mount; Code_JEDEC: MS-026; ComponentLink1Description: Manufacturer URL; ComponentLink1URL: http://www.ti.com/; ComponentLink2Description: Datasheet; ComponentLink2URL: http://www.ti.com/general/docs/lit/getliterature.tsp?genericPartNumber=TAS5701&fileType=pdf; ComponentLink3Description: Package Specification; ComponentLink3URL: http://www.ti.com/litv/pdf/mpdi001b
footprint TI-PAP64-4935X4935TP_N (QFP, 64-Leads, Body 10x10mm, Pitch 0.5mm, Thermal Pad 5.3x5.3mm, IPC Medium Density)
footprint TI-PAP64-4935X4935TP_L (QFP, 64-Leads, Body 10x10mm, Pitch 0.5mm, Thermal Pad 5.3x5.3mm, IPC High Density)
footprint TI-PAP64-4935X4935TP_M (QFP, 64-Leads, Body 10x10mm, Pitch 0.5mm, Thermal Pad 5.3x5.3mm, IPC Low Density)
part A pins: 1 OUT_A (hiz) "Output, half-bridge A", 4 BST_A "High-side bootstrap supply for half-bridge A", 7 TEST1 (in) "Test pin. Connect directly to GND.", 8 OC_ADJ (in) "Analog overcurrent programming. Requires 22-kohm resistor to ground.", 9 ~{FAULT} (out) "Overtemperature, undervoltage, and overcurrent fault reporting. Active low indicates fault. If high, normal operation.", 12 PLL_FLTM "PLL negative loop filter terminal", 13 PLL_FLTP "PLL positive loop filter terminal", 16 ~{RESET} (in) "Reset, active-low. A system reset is generated by applying a logic low to this terminal. R\E\S\E\T\ is an asynchronous control signal that sets the VALID outputs low, and places the PWM in the hard mute state (stop (See Datasheet)", 17 ~{PDN} (in) "Power down, active-low. P\D\N\ stops all clocks, and outputs stop switching whenever a logic low is applied. When P\D\N\ is released, the device powers up all logic, starts all clocks, and performs a soft start that returns (See Datasheet)", 18 ~{VREG_EN} (in) "Voltage regulator enable. Connect directly to GND.", 19 OSC_RES "Oscillator trim resistor. Connect an 18.2-kohm (1% tolerance is required) resistor to DVSSO.", 21 ~{MUTE} (in) "Performs a soft mute of outputs, active-low. A logic low on this pin sets the outputs equal to 50% duty cycle. A logic high on this pin allows normal operation. The mute control provides a noiseless volume ramp to silence. (See Datasheet)", 22 LRCLK (in) "Input serial audio data left/right clock (sampling rate clock)", 23 SCLK (in) "Serial audio data clock (shift clock). SCLK is the serial audio port input data bit clock.", 24 SDIN2 (in) "Serial audio data 2 input is one of the serial data input ports. SDIN2 supports three discrete (stereo) data formats.", 25 SDIN1 (in) "Serial audio data 1 input is one of the serial data input ports. SDIN1 supports three discrete (stereo) data formats.", 28 GAIN_1 (in) "MSB of gain select.", 29 GAIN_0 (in) "LSB of gain select. GAIN_0 and GAIN_1 allow 4 possible gain selections.", 30 FORMAT2 (in) "Digital data format select MSB.", 31 FORMAT1 (in) "Digital data format select LSB.", 32 FORMAT0 (in) "Digital data format select.", 33 CONFIG_2 (io) "Input/output configuration. Connect this terminal directly to GND.", 34 CONFIG_1 (io) "Input/output configuration. Connect this terminal directly to DVDD.", 36 MCLK (in) "Clock master input. The input frequency of this clock can range from 4.9 MHz to 49 MHz.", 37 ~{BKND_ERR} (in) "Active low. A back-end error sequence is initiated by applying a logic low to this pin. Connect to an external power stage. If no external power stage is used, connect directly to DVDD.", 38 VALID (hiz) "Output indicating validity of ALL PWM channels, active-high. This pin is connected to an external power stage. If no external power stage is used, leave this pin floating.", 39 SUB_PWM- (hiz) "Subwoofer negative PWM output. BD modulated signal.", 40 SUB_PWM+ (hiz) "Subwoofer positive PWM output. BD modulated signal.", 43 VREG "Digital regulator output. Not to be used for powering external circuitry.", 45 BST_D "High-side bootstrap supply for half-bridge D", 48 OUT_D (hiz) "Output, half-bridge D", 49 OUT_D (hiz) "Output, half-bridge D", 52 OUT_C (hiz) "Output, half-bridge C", 53 OUT_C (hiz) "Output, half-bridge C", 56 BST_C "High-side bootstrap supply for half-bridge C", 57 BST_B "High-side bootstrap supply for half-bridge B", 60 OUT_B (hiz) "Output, half-bridge B", 61 OUT_B (hiz) "Output, half-bridge B", 64 OUT_A (hiz) "Output, half-bridge A"
part B pins: 2 PVDD_A (power) "Power supply input for half-bridge output A (0 V-21 V)", 3 PVDD_A (power) "Power supply input for half-bridge output A (0 V-21 V)", 5 GVDD_AB (power) "Gate drive voltage for half-bridges A and B (10.8 V to 13.2 V)", 6 VDD (power) "Power supply for VREG (10.8 V to 13.2 V)", 10 AVDD (power) "3.3-V Analog power supply", 11 AVSS (power) "Analog 3.3-V supply ground", 14 VR_ANA (power) "Internally regulated 1.8-V analog supply voltage. This terminal must not be used to power external devices.", 15 DVDD (power) "3.3-V Digital power supply", 20 DVSSO (power) "Oscillator ground", 26 DVSS (power) "Digital ground", 27 VR_DIG (power) "Internally regulated 1.8-V analog supply voltage. This terminal must not be used to power external devices.", 35 DVDD (power) "3.3-V Digital power supply", 41 GND (power) "Analog ground for power stage.", 42 GND (power) "Analog ground for power stage.", 44 GVDD_CD (power) "Gate drive voltage for half-bridges C and D (10.8 V to 13.2 V)", 46 PVDD_D (power) "Power supply input for half-bridge output D(0 V-21 V)", 47 PVDD_D (power) "Power supply input for half-bridge output D(0 V-21 V)", 50 PGND_CD (power) "Power ground for half-bridges C and D", 51 PGND_CD (power) "Power ground for half-bridges C and D", 54 PVDD_C (power) "Power supply input for half-bridge output C (0 V-21 V)", 55 PVDD_C (power) "Power supply input for half-bridge output C (0 V-21 V)", 58 PVDD_B (power) "Power supply input for half-bridge output B (0 V-21 V)", 59 PVDD_B (power) "Power supply input for half-bridge output B (0 V-21 V)", 62 PGND_AB (power) "Power ground for half-bridges A and B", 63 PGND_AB (power) "Power ground for half-bridges A and B", 65 EP

## TAS5704PAP
designator U?
20 W Stereo Closed-Loop I2S Audio Power Amplifier with Speaker EQ and DRC (H / W Controlled), 0 to 85 degC, 64-pin QFP (PAP64), Green (RoHS & no Sb/Br); Manufacturer: Texas Instruments; PartNumber: TAS5704PAP; Analog Supply Max [V]: 3.6; Analog Supply Min [V]: 3; Input Type: Digital; Max. Number of Speaker Outputs: 4; Power Stage Supply Min(V): 10; SubFamily: Mid/High-Power Amplifier; DatasheetVersion: SLOS563A; PackageVersion: 4147702/C, 08/2003; PackageReference: PAP64-4935X4935TP; PackageDescription: 64-Pin Plastic Flat Pack, Body 10 x 10 mm, Pitch 0.5 mm; Supplier 1: Digi-Key; Supplier Part Number 1: TAS5704PAP-ND; Supplier 2: Mouser; Supplier Part Number 2: 595-TAS5704PAP; Digital Supply Min [V]: 3; Eco-Plan: Green (RoHS & no Sb/Br); Mounting Technology: Surface Mount; Code_JEDEC: MS-026; ComponentLink1Description: Manufacturer URL; ComponentLink1URL: http://www.ti.com/; ComponentLink2Description: Datasheet; ComponentLink2URL: http://www.ti.com/general/docs/lit/getliterature.tsp?genericPartNumber=TAS5704&fileType=pdf; ComponentLink3Description: Package Specification; ComponentLink3URL: http://www.ti.com/litv/pdf/mpdi001b
footprint TI-PAP64-4935X4935TP_N (QFP, 64-Leads, Body 10x10mm, Pitch 0.5mm, Thermal Pad 5.3x5.3mm, IPC Medium Density)
footprint TI-PAP64-4935X4935TP_L (QFP, 64-Leads, Body 10x10mm, Pitch 0.5mm, Thermal Pad 5.3x5.3mm, IPC High Density)
footprint TI-PAP64-4935X4935TP_M (QFP, 64-Leads, Body 10x10mm, Pitch 0.5mm, Thermal Pad 5.3x5.3mm, IPC Low Density)
part A pins: 1 OUT_B (out) "Output, half-bridge B", 4 OUT_A (out) "Output, half-bridge A", 5 OUT_A (out) "Output, half-bridge A", 12 PLL_FLTM "PLL negative loop filter terminal", 13 PLL_FLTP "PLL positive loop filter terminal", 16 ~{RESET} (in) "Reset, active-low. A system reset is generated by applying a logic low to this terminal. R\E\S\E\T\ is an asynchronous control signal that sets the VALID outputs low, and places the PWM in the hard-mute state stops (See Datasheet)", 17 ~{PDN} (in) "Power down, active-low. P\D\N\ stops all clocks and outputs stop switching. When P\D\N\ is released, the device powers up all logic, starts all clocks, and performs a soft start that returns to the previous configuration. (See Datasheet)", 18 ~{VREG_EN} (in) "Voltage regulator enable. Connect directly to GND.", 19 OSC_RES "Oscillator trim resistor. Connect an 18.2-k ohm resistor to DVSSO.", 21 ~{MUTE} (in) "Performs a soft mute of outputs, active-low. A logic low on this terminal sets the outputs equal to 50% duty cycle. A logic high on this terminal allows normal operation. The mute control provides a noiseless volume ramp to (See Datasheet)", 22 LRCLK (in) "Input serial audio data left/right clock (sampling rate clock)", 23 SCLK (in) "Serial audio data clock (shift clock). SCLK is the serial audio port input data bit clock.", 24 SDIN2 (in) "Serial audio data-2 input is one of the serial data input ports. SDIN2 supports three discrete (stereo) data formats.", 25 SDIN1 (in) "Serial audio data-1 input is one of the serial data input ports. SDIN1 supports three discrete (stereo) data formats.", 28 GAIN_1 (in) "MSB of gain select. GAIN_0 and GAIN_1 allow 4 possible gain selections.", 29 GAIN_0 (in) "LSB of gain select. GAIN_0 and GAIN_1 allow 4 possible gain selections.", 30 FORMAT2 (in) "Digital data format select.", 31 FORMAT1 (in) "Digital data format select.", 32 FORMAT0 (in) "Digital data format select.", 33 CONFIG_2 (io) "Input/output configuration.", 34 CONFIG_1 (io) "Input/output configuration.", 36 MCLK (in) "Master clock input. The input frequency of this clock can range from 4.9 MHz to 49.2 MHz.", 37 ~{BKND_ERR} (in) "Active low. A back-end error sequence is initiated by applying a logic low to this pin. Connect to an external power stage. If no external power stage is used, connect directly to DVDD.", 38 VALID (out) "Output indicating validity of all PWM channels, active high. Connect this pin to an external power stage or leave floating.", 39 SUB_PWM- (out) "Subwoofer negative PWM output", 40 SUB_PWM+ (out) "Subwoofer positive PWM output", 45 OUT_D (out) "Output, half-bridge D", 46 OUT_D (out) "Output, half-bridge D", 49 OUT_C (out) "Output, half-bridge C", 50 OUT_C (out) "Output, half-bridge C", 53 BST_C "High-side bootstrap supply for half-bridge C", 54 VCLAMP_CD "Internally generated voltage supply for channels C and D gate drive. Not to be used as a supply or connected to any component other than the decoupling capacitor", 55 BST_D "High-side bootstrap supply for half-bridge D", 56 BYPASS "Nominally equal to VCC/8. Internal reference voltage for analog cells", 59 BST_A "High-side bootstrap supply for half-bridge A", 60 VCLAMP_AB "Internally generated voltage supply for channels A and B gate drive. Not to be used as a supply or connected to any component other than the decoupling capacitor", 61 BST_B "High-side bootstrap supply for half-bridge B", 64 OUT_B (out) "Output, half-bridge B"
part B pins: 2 PGND_B (power) "Power ground for half-bridge B", 3 PGND_B (power) "Power ground for half-bridge B", 6 PGND_A (power) "Power ground for half-bridge A", 7 PGND_A (power) "Power ground for half-bridge A", 8 PVCC_A (power) "Power supply input for half-bridge output A", 9 PVCC_A (power) "Power supply input for half-bridge output A", 10 AVDD (power) "3.3-V analog power supply", 11 AVSS (power) "3.3-V analog supply ground", 14 VR_ANA (power) "Internally regulated 1.8-V analog supply voltage. This terminal must not be used to power external devices.", 15 DVDD (power) "3.3-V digital power supply", 20 DVSSO (power) "Oscillator ground", 26 DVSS (power) "Digital ground", 27 VR_DIG (power) "Internally regulated 1.8-V digital supply voltage. This terminal must not be used to power external devices.", 35 DVDD (power) "3.3-V digital power supply", 41 PVCC_D (power) "Power supply input for half-bridge output D", 42 PVCC_D (power) "Power supply input for half-bridge output D", 43 PGND_D (power) "Power ground for half-bridge D", 44 PGND_D (power) "Power ground for half-bridge D", 47 PGND_C (power) "Power ground for half-bridge C", 48 PGND_C (power) "Power ground for half-bridge C", 51 PVCC_C (power) "Power supply input for half-bridge output C", 52 PVCC_C (power) "Power supply input for half-bridge output C", 57 AGND (power) "Analog ground for power stage", 58 AVCC (power) "Analog power supply for power stage. Connect externally to same potential as PVCC.", 62 PVCC_B (power) "Power supply input for half-bridge output B", 63 PVCC_B (power) "Power supply input for half-bridge output B", 65 EP (power)

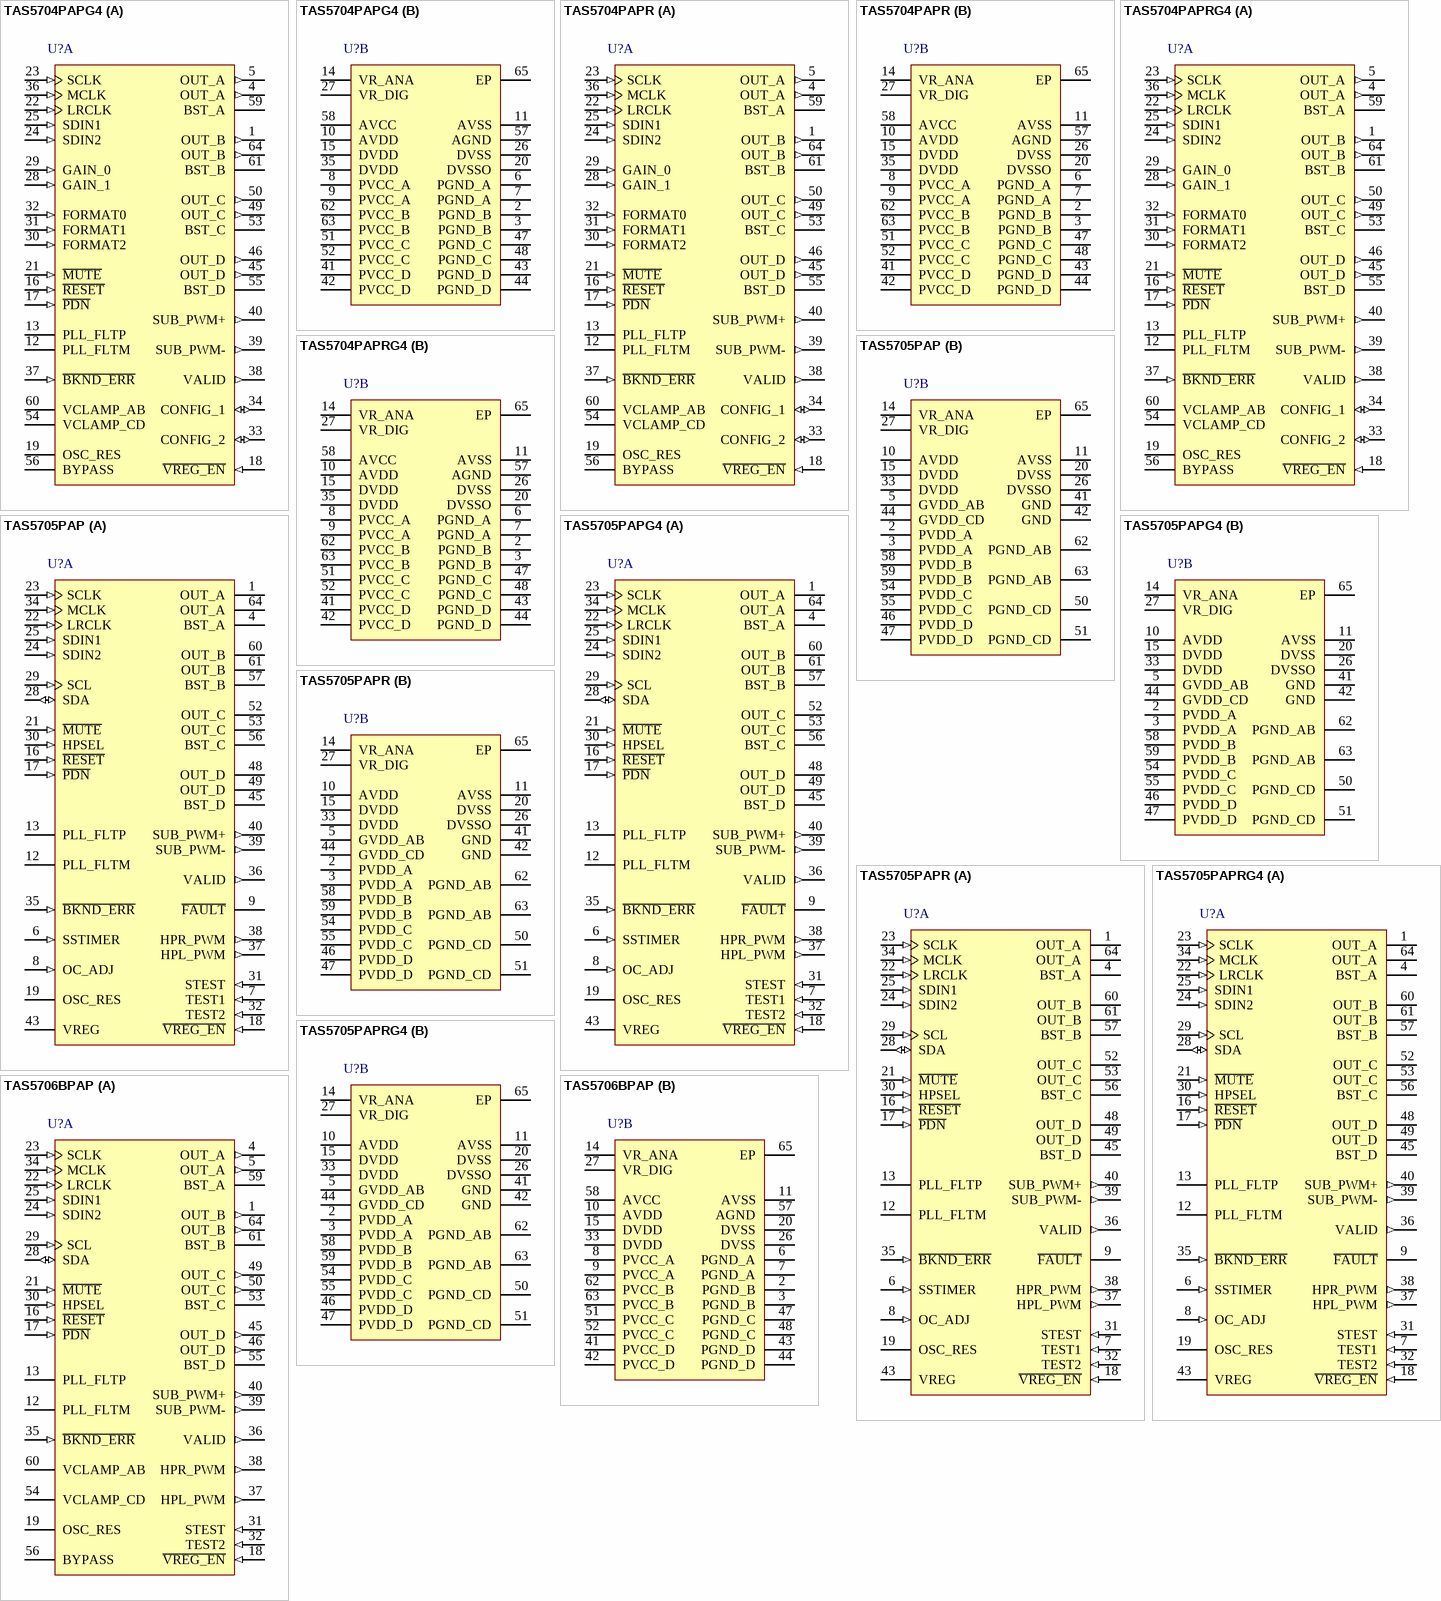
[diagram p19: symbols TAS5704PAPG4 to TAS5706BPAP]